# EAGLE library part CONVERSION_TSW_12X2 (library Dist_to_Conversion_Connector)
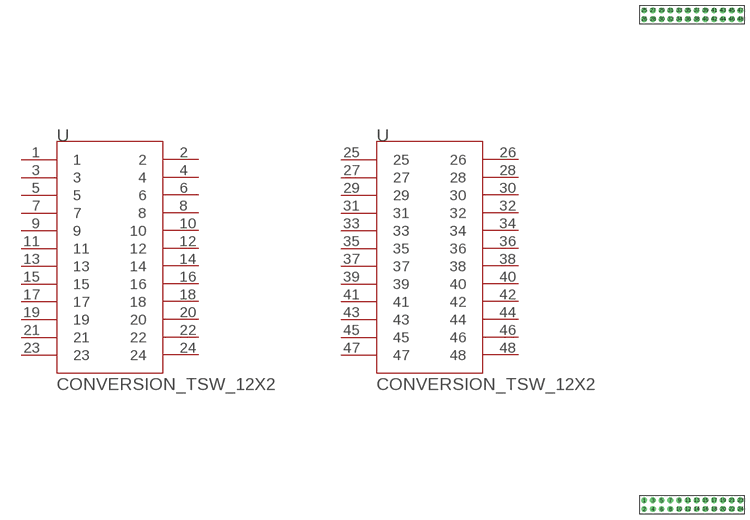
[diagram p0: symbol with the pads of CONVERSION_TSW_12X2; footprint CONVERSION_TSW_12X2]

Designator prefix -

## CONVERSION_TSW_12X2  [CONVERSION_TSW_12X2]
1  1
2  2
3  3
4  4
5  5
6  6
7  7
8  8
9  9
10  10
11  11
12  12
13  13
14  14
15  15
16  16
17  17
18  18
19  19
20  20
21  21
22  22
23  23
24  24
25  25
26  26
27  27
28  28
29  29
30  30
31  31
32  32
33  33
34  34
35  35
36  36
37  37
38  38
39  39
40  40
41  41
42  42
43  43
44  44
45  45
46  46
47  47
48  48

## Footprint CONVERSION_TSW_12X2 (pad centres in mm)
drill 1 pad 1.676: 1 0,2.54; 2 0,0; 3 2.54,2.54; 4 2.54,0; 5 5.08,2.54; 6 5.08,0; 7 7.62,2.54; 8 7.62,0; 9 10.16,2.54; 10 10.16,0; 11 12.7,2.54; 12 12.7,0; 13 15.24,2.54; 14 15.24,0; 15 17.78,2.54; 16 17.78,0; 17 20.32,2.54; 18 20.32,0; 19 22.86,2.54; 20 22.86,0; 21 25.4,2.54; 22 25.4,0; 23 27.94,2.54; 24 27.94,0; 25 0,144.78; 26 0,142.24; 27 2.54,144.78; 28 2.54,142.24; 29 5.08,144.78; 30 5.08,142.24; 31 7.62,144.78; 32 7.62,142.24; 33 10.16,144.78; 34 10.16,142.24; 35 12.7,144.78; 36 12.7,142.24; 37 15.24,144.78; 38 15.24,142.24; 39 17.78,144.78; 40 17.78,142.24; 41 20.32,144.78; 42 20.32,142.24; 43 22.86,144.78; 44 22.86,142.24; 45 25.4,144.78; 46 25.4,142.24; 47 27.94,144.78; 48 27.94,142.24